# Altium schematic symbol library Schlib_Pulse_Electronics.SchLib: 6 symbols
Pins are listed as number, name and electrical type; pins without a type are passive.

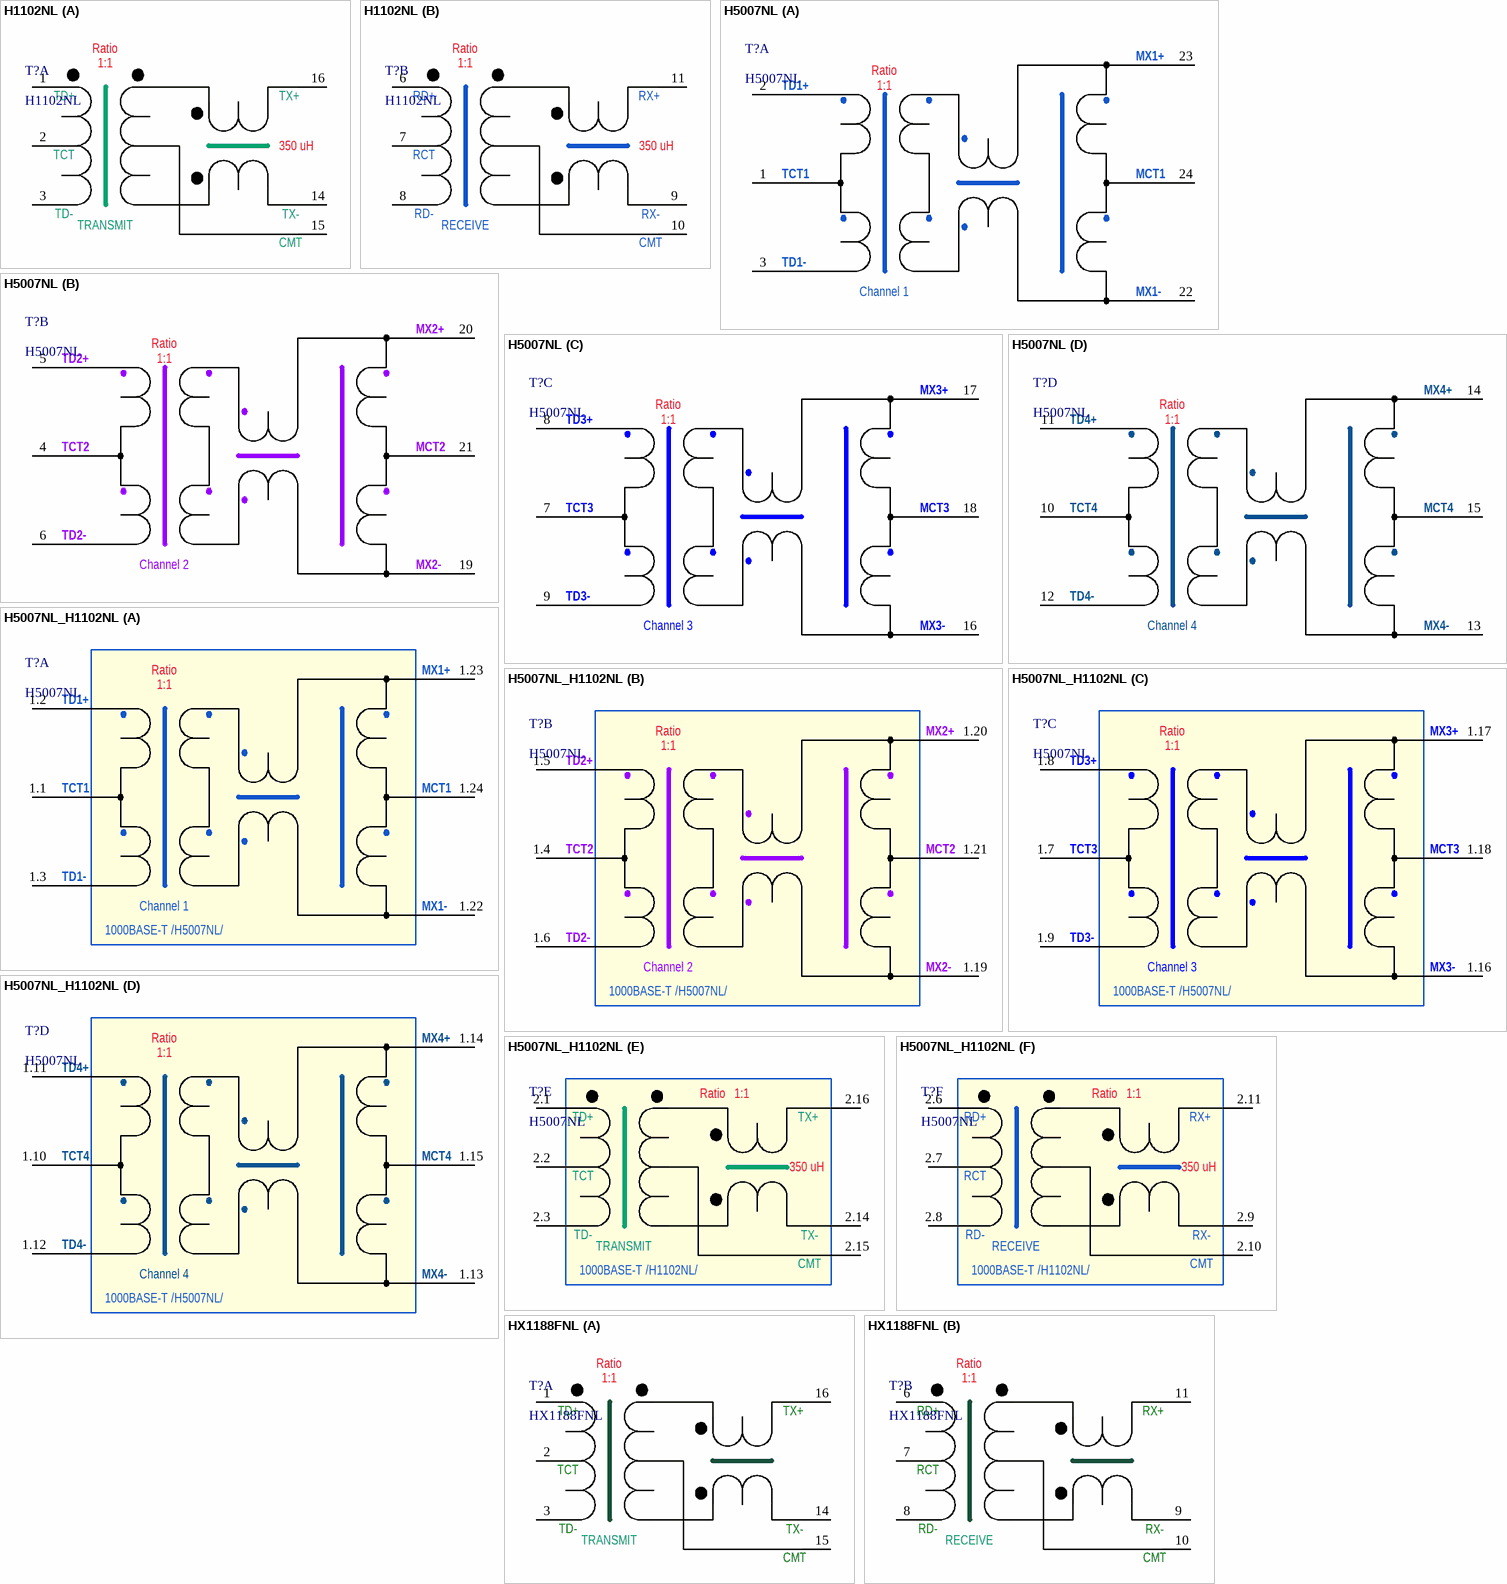
[diagram p0: symbols H1102NL to HX1188FNL]

## H1102NL
designator T?
10/100BASE-T Ethernet transformer Ratio 1:1 350 uH; Manufacturer: Pulse Electronics; Part Number: H1102NL
footprint H1102NL
part A pins: 1 TD+, 2 TCT, 3 TD-, 14 TX-, 15 CMTT, 16 TX+
part B pins: 6 RD+, 7 RCT, 8 RD-, 9 RX-, 10 CMTR, 11 RX+
part A text: Ratio; 1:1; 350 uH; TRANSMIT; CMT
part B text: Ratio; 1:1; 350 uH; RECEIVE; CMT

## H5007NL
designator T?
1000BASE-T Magnetics Module; Manufacturer: Pulse Electronics; Part Number: H5007NL
footprint H5007NL
part A pins: 1 TCT1, 2 TD1+, 3 TD1-, 22 MX1-, 23 MX1+, 24 MCT1
part B pins: 4 TCT2, 5 TD2+, 6 TD2-, 19 MX2-, 20 MX2+, 21 MCT2
part C pins: 7 TCT3, 8 TD3+, 9 TD3-, 16 MX3-, 17 MX3+, 18 MCT3
part D pins: 10 TCT4, 11 TD4+, 12 TD4-, 13 MX4-, 14 MX4+, 15 MCT4
part A text: Ratio; 1:1; Channel 1
part B text: Ratio; 1:1; Channel 2
part C text: Ratio; 1:1; Channel 3
part D text: Ratio; 1:1; Channel 4

## H5007NL_H1102NL
designator T?, comment H5007NL
1000BASE-T Magnetics Module with 100BASE-T Magnetics Module; Manufacturer: Pulse Electronics; Part Number: H5007NL
footprint H5007NL_with_H1102NL
part A pins: 1.1 TCT1, 1.2 TD1+, 1.3 TD1-, 1.22 MX1-, 1.23 MX1+, 1.24 MCT1
part B pins: 1.4 TCT2, 1.5 TD2+, 1.6 TD2-, 1.19 MX2-, 1.20 MX2+, 1.21 MCT2
part C pins: 1.7 TCT3, 1.8 TD3+, 1.9 TD3-, 1.16 MX3-, 1.17 MX3+, 1.18 MCT3
part D pins: 1.10 TCT4, 1.11 TD4+, 1.12 TD4-, 1.13 MX4-, 1.14 MX4+, 1.15 MCT4
part E pins: 2.1 TD+, 2.2 TCT, 2.3 TD-, 2.14 TX-, 2.15 CMTT, 2.16 TX+
part F pins: 2.6 RD+, 2.7 RCT, 2.8 RD-, 2.9 RX-, 2.10 CMTR, 2.11 RX+
part A text: Ratio; 1:1; Channel 1; 1000BASE-T /H5007NL/
part B text: Ratio; 1:1; Channel 2; 1000BASE-T /H5007NL/
part C text: Ratio; 1:1; Channel 3; 1000BASE-T /H5007NL/
part D text: Ratio; 1:1; Channel 4; 1000BASE-T /H5007NL/
part E text: Ratio; 1:1; 350 uH; TRANSMIT; CMT; 1000BASE-T /H1102NL/
part F text: Ratio; 1:1; 350 uH; RECEIVE; CMT; 1000BASE-T /H1102NL/

## HX1188FNL
designator T?
Ethernet transformer; Manufacturer: Pulse Electronics; Part Number: HX1188FNL
footprint HX1188FNL
part A pins: 1 TD+, 2 TCT, 3 TD-, 14 TX-, 15 CMTT, 16 TX+
part B pins: 6 RD+, 7 RCT, 8 RD-, 9 RX-, 10 CMTR, 11 RX+
part A text: Ratio; 1:1; TRANSMIT; CMT
part B text: Ratio; 1:1; RECEIVE; CMT

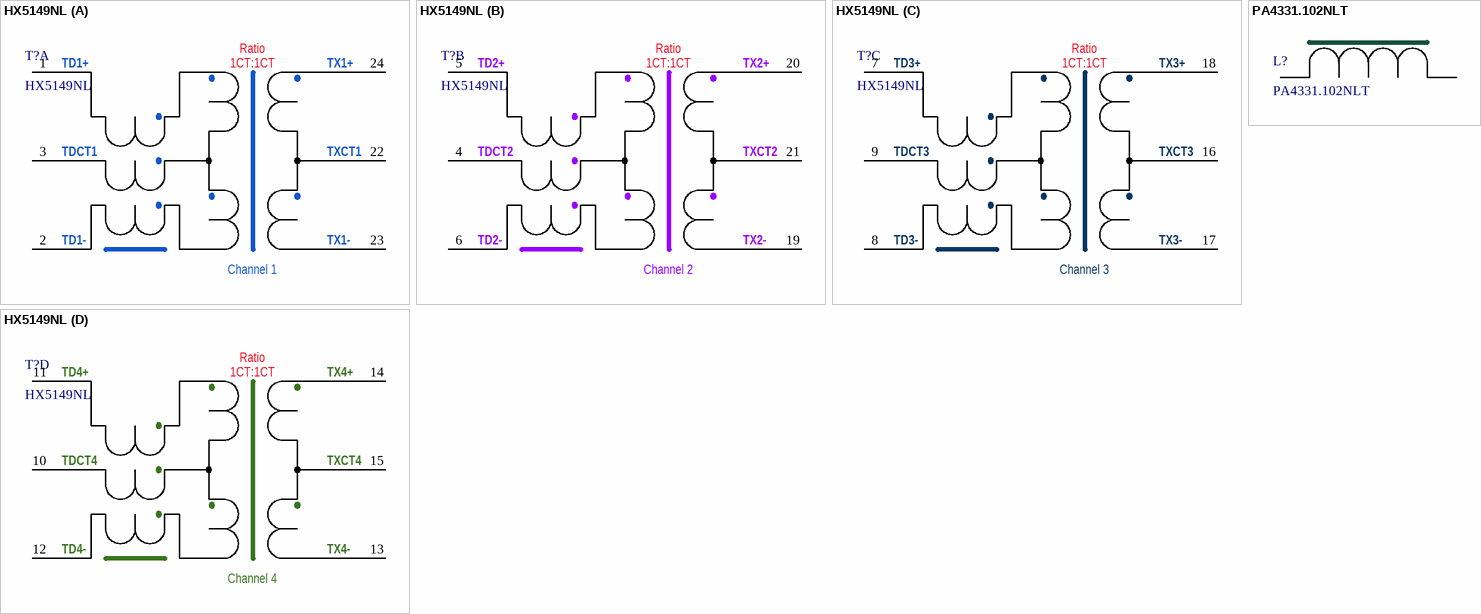
[diagram p1: symbols HX5149NL to PA4331.102NLT]

## HX5149NL
designator T?
1000BASE-T Magnetics Module; Manufacturer: Pulse Electronics; Part Number: HX5149NL
footprint HX5149NL
part A pins: 1 TD1_P, 2 TD1_N, 3 TDCT1, 22 TXCT1, 23 TX1_N, 24 TX1_P
part B pins: 4 TDCT2, 5 TD2_P, 6 TD2_N, 19 TX2_N, 20 TX2_P, 21 TXCT2
part C pins: 7 TD3_P, 8 TD3_N, 9 TDCT3, 16 TXCT3, 17 TX3_N, 18 TX3_P
part D pins: 10 TDCT4, 11 TD4_P, 12 TD4_N, 13 TX4_N, 14 TX4_P, 15 TXCT4
part A text: Ratio; TD1+; 1CT:1CT; TX1+; TD1-; TX1-; Channel 1
part B text: Ratio; TD2+; 1CT:1CT; TX2+; TD2-; TX2-; Channel 2
part C text: Ratio; TD3+; 1CT:1CT; TX3+; TD3-; TX3-; Channel 3
part D text: Ratio; TD4+; 1CT:1CT; TX4+; TD4-; TX4-; Channel 4

## PA4331.102NLT
designator L?
Fixed Inductors with Iron Core 1µH, 2,7A 54 mOhm; Part Number: PA4331.102NLT; Package: Nonstandard (3.20mm x 3.20mm x 1.20mm)
pins: 1, 2